# EAGLE library part LM211DG (library On Semiconductor)
Single Comparators
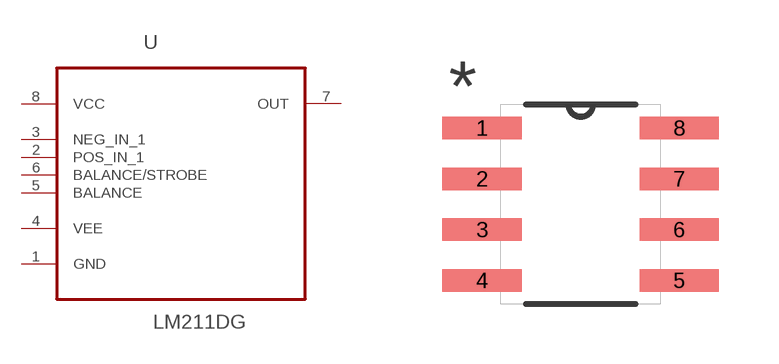
[diagram p28: symbol with the pads of SOIC127P600X175-8N; footprint SOIC127P600X175-8N]

Designator prefix U

## LM211DG (MPN: LM211DG; OC_FARNELL: 1468702; OC_NEWARK: 41K9834; PACKAGE: SOIC-8; SUPPLIER: Onsemiconductor)  [SOIC127P600X175-8N]
1  GND  pas
2  POS_IN_1  in
3  NEG_IN_1  in
4  VEE  pwr
5  BALANCE  in
6  BALANCE/STROBE  in
7  OUT  out
8  VCC  pwr

## Footprint SOIC127P600X175-8N (pad centres in mm)
smd 1.981 x 0.559: 1 -2.464,1.905; 2 -2.464,0.635; 3 -2.464,-0.635; 4 -2.464,-1.905; 5 2.464,-1.905; 6 2.464,-0.635; 7 2.464,0.635; 8 2.464,1.905